# EAGLE library part LSM330DLC (library Gyros)
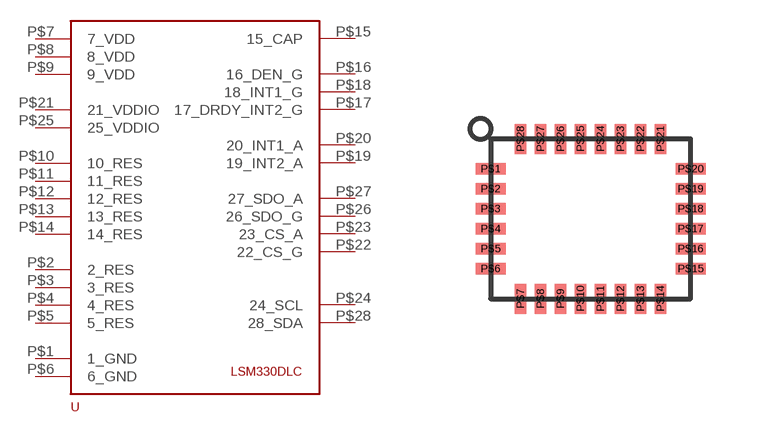
[diagram p3: symbol with the pads of LSM330DLC; footprint LSM330DLC]

Designator prefix -

## LSM330DLC  [LSM330DLC]
P$1  1_GND
P$2  2_RES
P$3  3_RES
P$4  4_RES
P$5  5_RES
P$6  6_GND
P$7  7_VDD
P$8  8_VDD
P$9  9_VDD
P$10  10_RES
P$11  11_RES
P$12  12_RES
P$13  13_RES
P$14  14_RES
P$15  15_CAP
P$16  16_DEN_G
P$17  17_DRDY_INT2_G
P$18  18_INT1_G
P$19  19_INT2_A
P$20  20_INT1_A
P$21  21_VDDIO
P$22  22_CS_G
P$23  23_CS_A
P$24  24_SCL
P$25  25_VDDIO
P$26  26_SDO_G
P$27  27_SDO_A
P$28  28_SDA

## Footprint LSM330DLC (pad centres in mm)
smd 0.75 x 0.28: P$1 -2.5,1.25; P$2 -2.5,0.75; P$3 -2.5,0.25; P$4 -2.5,-0.25; P$5 -2.5,-0.75; P$6 -2.5,-1.25; P$15 2.5,-1.25; P$16 2.5,-0.75; P$17 2.5,-0.25; P$18 2.5,0.25; P$19 2.5,0.75; P$20 2.5,1.25
smd 0.28 x 0.75: P$7 -1.75,-2; P$8 -1.25,-2; P$9 -0.75,-2; P$10 -0.25,-2; P$11 0.25,-2; P$12 0.75,-2; P$13 1.25,-2; P$14 1.75,-2; P$21 1.75,2; P$22 1.25,2; P$23 0.75,2; P$24 0.25,2; P$25 -0.25,2; P$26 -0.75,2; P$27 -1.25,2; P$28 -1.75,2